# EAGLE library part 52271-1469 (library Molex_By_element14_Batch_1)
CONNECTOR, FPC, 1.0MM, 14 WAY
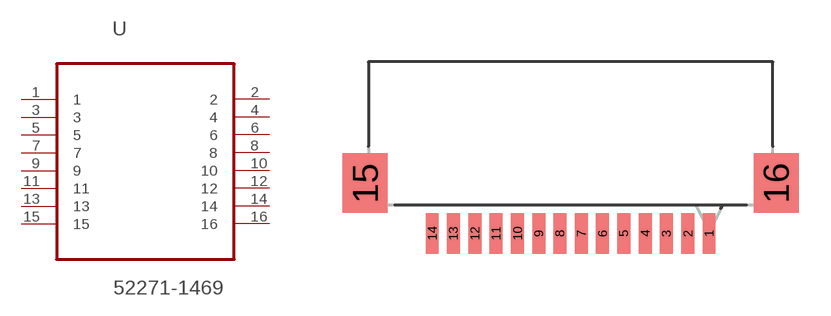
[diagram p13: symbol with the pads of MOLEX_52271-1469; footprint MOLEX_52271-1469]

Designator prefix U

## 52271-1469 (MPN: 52271-1469; OC_FARNELL: 1757091; OC_NEWARK: 92M5945; PACKAGE: CONNECTOR, FPC, 1.0MM, 14 WAY; SUPPLIER: Molex)  [MOLEX_52271-1469]
1  1  pas
2  2  pas
3  3  pas
4  4  pas
5  5  pas
6  6  pas
7  7  pas
8  8  pas
9  9  pas
10  10  pas
11  11  pas
12  12  pas
13  13  pas
14  14  pas
15  15  pas
16  16  pas

## Footprint MOLEX_52271-1469 (pad centres in mm)
smd 0.61 x 1.905: 1 6.502,4.699; 2 5.512,4.699; 3 4.496,4.699; 4 3.505,4.699; 5 2.489,4.699; 6 1.499,4.699; 7 0.508,4.699; 8 -0.508,4.699; 9 -1.499,4.699; 10 -2.489,4.699; 11 -3.505,4.699; 12 -4.496,4.699; 13 -5.512,4.699; 14 -6.502,4.699
smd 2.108 x 2.794: 15 -9.652,7.061; 16 9.652,7.061